# EAGLE library part 662022231822 (library Wire_to_Board_Connectors_rev15d)
WR-MPC3 3.00mm Male Dual Row SMT Vertical Header with SMT Fitting Nail, 22 Pins=>Code : Con_WTB_MPC3_2_PCB_SMT_662022231822 <http://katalog.we-online.de/media/thumbs2/eican/thb_Con_WTB_MPC3_2_PCB_SMT_6620xx231822_pf2.jpg> Details see: http://katalog.we-online.de/en/em/662_0xx_231_822 Created 2014-06-06, Karrer Zheng 2014 (C) Würth Elektronik
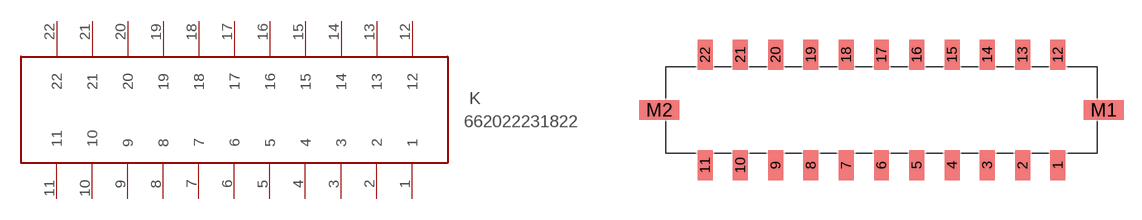
[diagram p399: symbol with the pads of 662022231822; footprint 662022231822]

Designator prefix K

## 662022231822  [662022231822]
1  1  pas
2  2  pas
3  3  pas
4  4  pas
5  5  sup
6  6  pas
7  7  pas
8  8  pas
9  9  pas
10  10  pas
11  11  pas
12  12  pas
13  13  pas
14  14  pas
15  15  pas
16  16  pas
17  17  pas
18  18  hiz
19  19  pas
20  20  pas
21  21  pas
22  22  pas

## Footprint 662022231822 (pad centres in mm)
WR-MPC3 3.00mm Male Dual Row SMT Vertical Header with SMT Fitting Nail, 22 Pins
smd 1.27 x 2.54: 1 15,-4.7; 2 12,-4.7; 3 9,-4.7; 4 6,-4.7; 5 3,-4.7; 6 0,-4.7; 7 -3,-4.7; 8 -6,-4.7; 9 -9,-4.7; 10 -12,-4.7; 11 -15,-4.7; 12 15,4.7; 13 12,4.7; 14 9,4.7; 15 6,4.7; 16 3,4.7; 17 0,4.7; 18 -3,4.7; 19 -6,4.7; 20 -9,4.7; 21 -12,4.7; 22 -15,4.7
smd 3.43 x 1.65: M1 18.895,0; M2 -18.895,0